# Altium footprint library Lumex.PcbLib: 1 footprints
Each footprint in its own frame and in the unit in brackets; x right, y up, seen from the top. Pads: shape width x height; smd on the part's side, far side on the other; paste and mask are expansions set on the pad; w line width, h text height; cw(c..) or ccw(c..) is an arc to the next point about the centre after c.
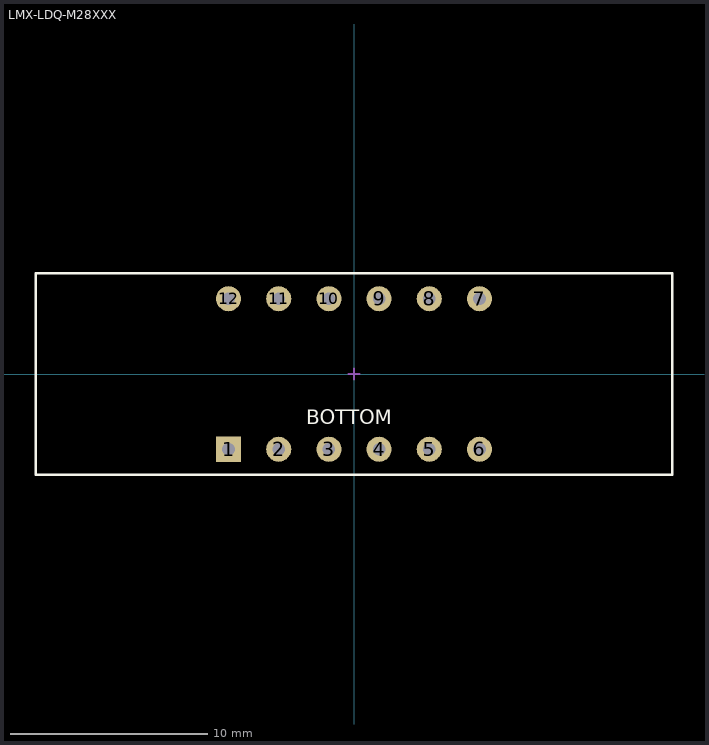
[diagram p0: the footprint, top view; thin cyan lines are the x and y axes]

## LMX-LDQ-M28XXX [mil] "12-DIP (0.300\", 7.62mm)"
height 228.35
pads (12):
  rect 50x50 hole 25: 1(-250,-150)
  round 50 hole 25: 2(-150,-150) 3(-50,-150) 4(50,-150) 5(150,-150) 6(250,-150) 7(250,150) 8(150,150) 9(50,150) 10(-50,150) 11(-150,150) 12(-250,150)
Top Overlay:
  lines w5: -633.86,-200.79 -633.86,200.79 633.86,200.79 633.86,-200.79 -633.86,-200.79
  text "BOTTOM" at -95,-110 h50
Mechanical 2:
  lines w3.94: -633.86,-200.79 -633.86,200.79 633.86,200.79 633.86,-200.79 -633.86,-200.79
Mechanical 4:
  lines w1.97: -633.86,-200.79 633.86,-200.79 633.86,200.79 -633.86,200.79 -633.86,-200.79
  lines w3.94: -10.83,0 10.83,0 ; 0,-10.83 0,10.83
3D body: height 228.35, standoff 0, extent -633.86,-200.79 633.86,200.79
3D body: height 0, standoff -293.31, extent -258.92,141.02 -241,158.99
3D body: height 0, standoff -293.31, extent -158.92,141.02 -141,158.99
3D body: height 0, standoff -293.31, extent -58.92,141.02 -41,158.99
3D body: height 0, standoff -293.31, extent 41.08,141.02 59,158.99
3D body: height 0, standoff -293.31, extent 141.08,141.02 159,158.99
3D body: height 0, standoff -293.31, extent 241.08,141.02 259,158.99
3D body: height 0, standoff -293.31, extent 241.08,-158.98 259,-141.01
3D body: height 0, standoff -293.31, extent 141.08,-158.98 159,-141.01
3D body: height 0, standoff -293.31, extent 41.08,-158.98 59,-141.01
3D body: height 0, standoff -293.31, extent -58.92,-158.98 -41,-141.01
3D body: height 0, standoff -293.31, extent -158.92,-158.98 -141,-141.01
3D body: height 0, standoff -293.31, extent -258.92,-158.98 -241,-141.01